# Altium schematic symbol library CR0603-FX-4701ELF.SchLib: 1 symbol
Pins are listed as number, name and electrical type; pins without a type are passive.

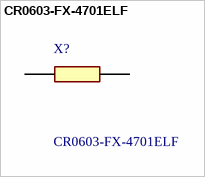
[diagram p0: symbol CR0603-FX-4701ELF]

## CR0603-FX-4701ELF
designator X?
SMD 0603 thick film resistor 4K7 1% Bourns CR0603-FX Series Thick Film Surface Mount Fixed Resistor 0603 Case 4.7k +/-1% 0.1W +/-100ppm/C; Geometry.Height: 0.55mm; Mouser Part Number: 652-CR0603FX-4701ELF; Mouser Price/Stock: https://www.mouser.co.uk/ProductDetail/Bourns/CR0603-FX-4701ELF?qs=CCIlxZRRv7jGwxSydcgiTA%3D%3D; Manufacturer_Name: Bourns; Manufacturer_Part_Number: CR0603-FX-4701ELF; Datasheet Link: https://www.bourns.com/pdfs/chpreztr.pdf
footprint RESC1608X55N
pins: 1, 2